# Altium integrated library Maxim Sensors.IntLib: 1171 symbols (part 56 of 61)
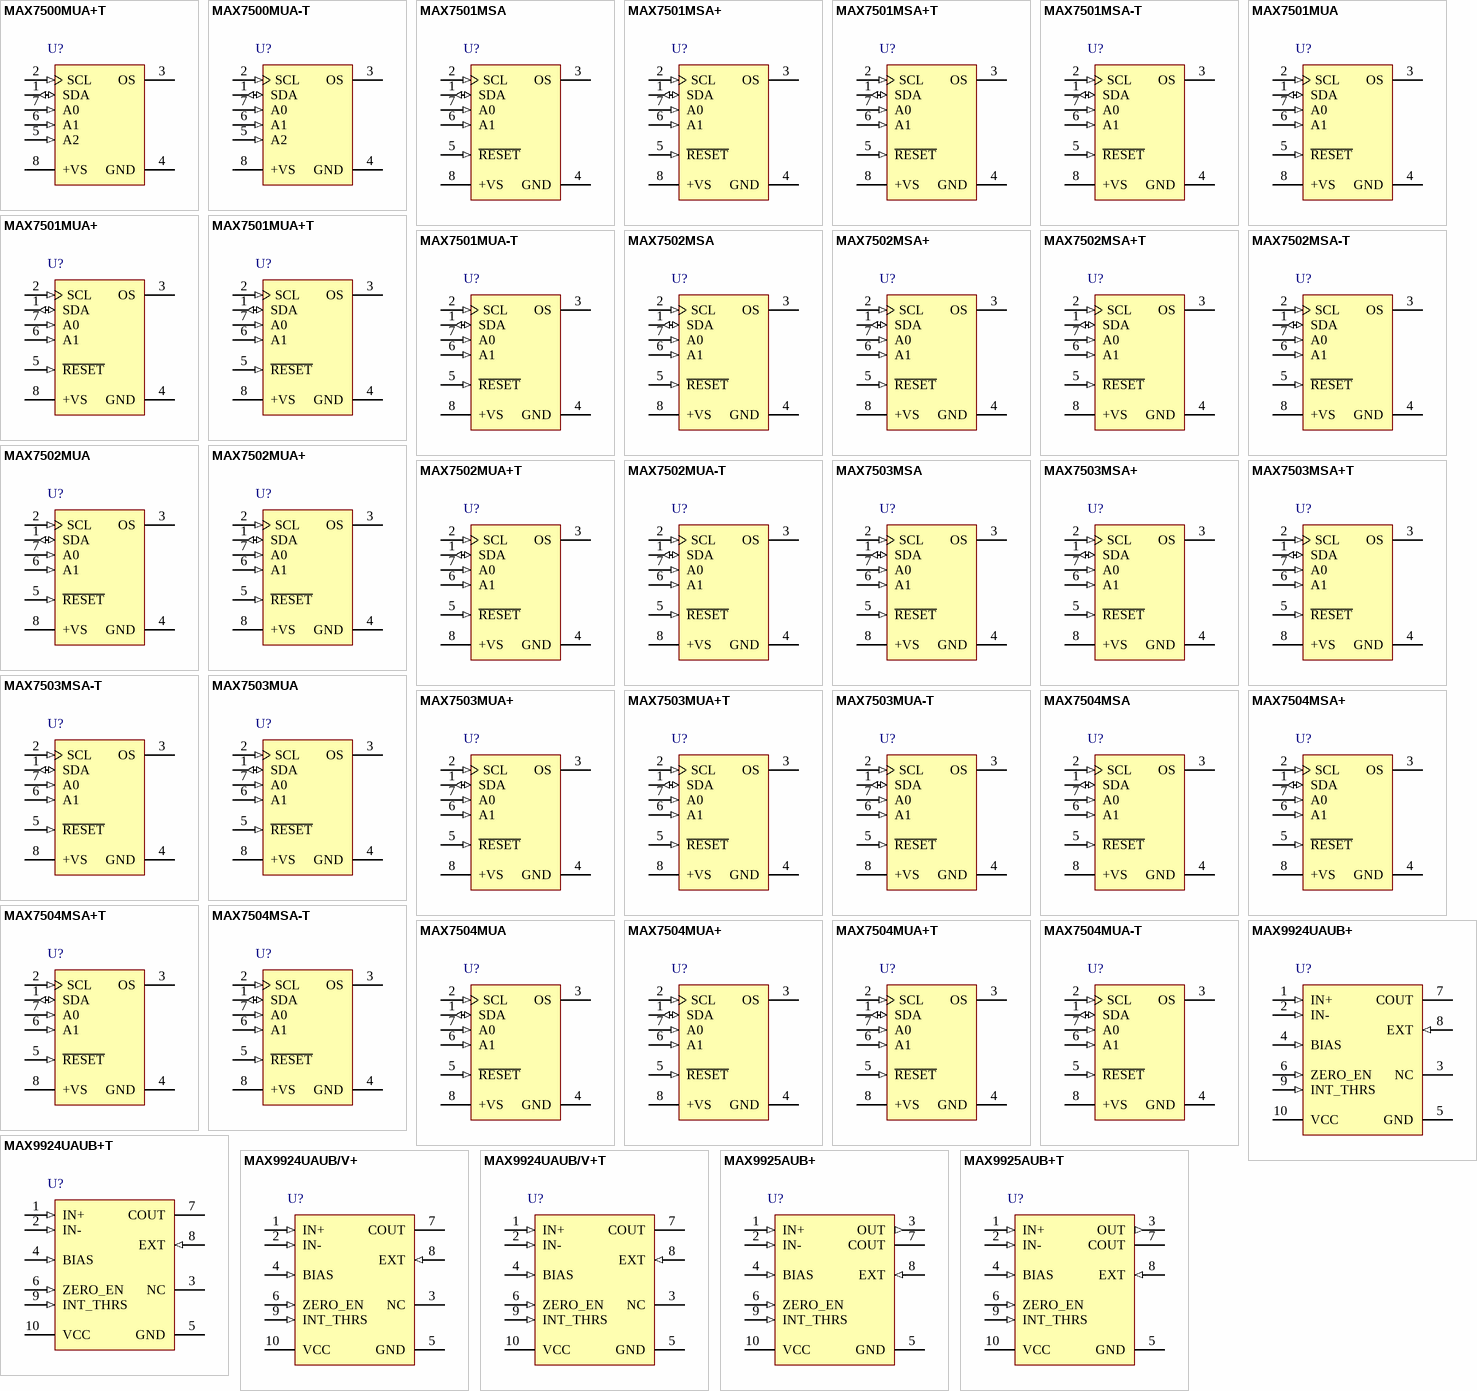
[diagram p88: symbols MAX7500MUA+T to MAX9925AUB+T]

## MAX9924UAUB+
designator U?
Single-Channel, Variable Reluctance Sensor Interface with No Low Power Shutdown, 4.5 to 5.5 V, -40 to 125 degC, 10-Pin SOP (U10+2), Pb-Free; Generic Part Number: MAX9924; PartNumber: MAX9924UAUB+; Channels: 1; Industry Qualified: Automotive - AECQ100, Automotive - General; DatasheetVersion: Rev. 4; PackageVersion: Rev. L, 07/2008; PackageReference: U10+2; PackageDescription: 10-Pin Micro-MAX, Thin Shrink Small-Outline (U10+2), Body 3 x 3 mm, Pitch 0.5 mm; Supplier 1: Digi-Key; Supplier Part Number 1: MAX9924UAUB+-ND; Supplier 2: Mouser; Supplier Part Number 2: 700-MAX9924UAUB; Low Pwr. Shutdn: No; Mounting Technology: Surface Mount; Code_JEDEC: MO-187; ComponentLink1Description: Manufacturer URL; ComponentLink1URL: http://www.maximintegrated.com/; ComponentLink2Description: Datasheet; ComponentLink2URL: http://datasheets.maximintegrated.com/en/ds/MAX9924-MAX9927.pdf; ComponentLink3Description: Package Specification; ComponentLink3URL: http://pdfserv.maximintegrated.com/package_dwgs/21-0061.PDF
footprint MAXM-U10+2_N (SOP, 10-Leads, Body 3x3mm, Pitch 0.5mm, IPC Medium Density)
footprint MAXM-U10+2_L (SOP, 10-Leads, Body 3x3mm, Pitch 0.5mm, IPC High Density)
footprint MAXM-U10+2_M (SOP, 10-Leads, Body 3x3mm, Pitch 0.5mm, IPC Low Density)
pins: 1 IN+ (in) "Noninverting Input", 2 IN- (in) "Inverting Input", 3 NC "No Connection. Not internally connected.", 4 BIAS (in) "Input Bias. Connect to an external resistor-divider and bypass to ground with a 0.1uF and 10uF capacitor.", 5 GND (power) "Ground", 6 ZERO_EN (in) "Zero-Crossing Enable. Mode configuration pin, internally pulled up to VCC with 10k ohm resistor.", 7 COUT (oc) "Comparator Output. Open-drain output, connect a 10k ohm pullup resistor from COUT to VPULLUP.", 8 EXT (in) "External Reference Input. Leave EXT unconnected in Modes A1, A2. Apply an external voltage in Modes B, C.", 9 INT_THRS (in) "Internal Adaptive Threshold. Mode configuration pin.", 10 VCC (power) "Power Supply"

## MAX9924UAUB+T
designator U?
Single-Channel, Variable Reluctance Sensor Interface with No Low Power Shutdown, 4.5 to 5.5 V, -40 to 125 degC, 10-Pin SOP (U10+2), Pb-Free, Tape and Reel; Generic Part Number: MAX9924; PartNumber: MAX9924UAUB+T; Channels: 1; Industry Qualified: Automotive - AECQ100, Automotive - General; DatasheetVersion: Rev. 4; PackageVersion: Rev. L, 07/2008; PackageReference: U10+2; PackageDescription: 10-Pin Micro-MAX, Thin Shrink Small-Outline (U10+2), Body 3 x 3 mm, Pitch 0.5 mm; Supplier 1: Digi-Key; Supplier Part Number 1: MAX9924UAUB+T-ND; Supplier 2: Mouser; Supplier Part Number 2: 700-MAX9924UAUBT; Low Pwr. Shutdn: No; Packing: Tape and Reel; Mounting Technology: Surface Mount; Code_JEDEC: MO-187; ComponentLink1Description: Manufacturer URL; ComponentLink1URL: http://www.maximintegrated.com/; ComponentLink2Description: Datasheet; ComponentLink2URL: http://datasheets.maximintegrated.com/en/ds/MAX9924-MAX9927.pdf; ComponentLink3Description: Package Specification; ComponentLink3URL: http://pdfserv.maximintegrated.com/package_dwgs/21-0061.PDF
footprint MAXM-U10+2_N (SOP, 10-Leads, Body 3x3mm, Pitch 0.5mm, IPC Medium Density)
footprint MAXM-U10+2_L (SOP, 10-Leads, Body 3x3mm, Pitch 0.5mm, IPC High Density)
footprint MAXM-U10+2_M (SOP, 10-Leads, Body 3x3mm, Pitch 0.5mm, IPC Low Density)
pins: 1 IN+ (in) "Noninverting Input", 2 IN- (in) "Inverting Input", 3 NC "No Connection. Not internally connected.", 4 BIAS (in) "Input Bias. Connect to an external resistor-divider and bypass to ground with a 0.1uF and 10uF capacitor.", 5 GND (power) "Ground", 6 ZERO_EN (in) "Zero-Crossing Enable. Mode configuration pin, internally pulled up to VCC with 10k ohm resistor.", 7 COUT (oc) "Comparator Output. Open-drain output, connect a 10k ohm pullup resistor from COUT to VPULLUP.", 8 EXT (in) "External Reference Input. Leave EXT unconnected in Modes A1, A2. Apply an external voltage in Modes B, C.", 9 INT_THRS (in) "Internal Adaptive Threshold. Mode configuration pin.", 10 VCC (power) "Power Supply"

## MAX9924UAUB/V+
designator U?
Single-Channel, Variable Reluctance Sensor Interface with No Low Power Shutdown, 4.5 to 5.5 V, -40 to 125 degC, 10-Pin SOP (U10+2), Pb-Free; Generic Part Number: MAX9924; PartNumber: MAX9924UAUB/V+; Channels: 1; Industry Qualified: Automotive - AECQ100, Automotive - General; DatasheetVersion: Rev. 4; PackageVersion: Rev. L, 07/2008; PackageReference: U10+2; PackageDescription: 10-Pin Micro-MAX, Thin Shrink Small-Outline (U10+2), Body 3 x 3 mm, Pitch 0.5 mm; Supplier 1: Digi-Key; Supplier Part Number 1: MAX9924UAUB/V+-ND; Supplier 2: Mouser; Supplier Part Number 2: 700-MAX9924UAUB/V+; Low Pwr. Shutdn: No; Mounting Technology: Surface Mount; Code_JEDEC: MO-187; ComponentLink1Description: Manufacturer URL; ComponentLink1URL: http://www.maximintegrated.com/; ComponentLink2Description: Datasheet; ComponentLink2URL: http://datasheets.maximintegrated.com/en/ds/MAX9924-MAX9927.pdf; ComponentLink3Description: Package Specification; ComponentLink3URL: http://pdfserv.maximintegrated.com/package_dwgs/21-0061.PDF
footprint MAXM-U10+2_N (SOP, 10-Leads, Body 3x3mm, Pitch 0.5mm, IPC Medium Density)
footprint MAXM-U10+2_L (SOP, 10-Leads, Body 3x3mm, Pitch 0.5mm, IPC High Density)
footprint MAXM-U10+2_M (SOP, 10-Leads, Body 3x3mm, Pitch 0.5mm, IPC Low Density)
pins: 1 IN+ (in) "Noninverting Input", 2 IN- (in) "Inverting Input", 3 NC "No Connection. Not internally connected.", 4 BIAS (in) "Input Bias. Connect to an external resistor-divider and bypass to ground with a 0.1uF and 10uF capacitor.", 5 GND (power) "Ground", 6 ZERO_EN (in) "Zero-Crossing Enable. Mode configuration pin, internally pulled up to VCC with 10k ohm resistor.", 7 COUT (oc) "Comparator Output. Open-drain output, connect a 10k ohm pullup resistor from COUT to VPULLUP.", 8 EXT (in) "External Reference Input. Leave EXT unconnected in Modes A1, A2. Apply an external voltage in Modes B, C.", 9 INT_THRS (in) "Internal Adaptive Threshold. Mode configuration pin.", 10 VCC (power) "Power Supply"

## MAX9924UAUB/V+T
designator U?
Single-Channel, Variable Reluctance Sensor Interface with No Low Power Shutdown, 4.5 to 5.5 V, -40 to 125 degC, 10-Pin SOP (U10+2), Pb-Free, Tape and Reel; Generic Part Number: MAX9924; PartNumber: MAX9924UAUB/V+T; Channels: 1; Industry Qualified: Automotive - AECQ100, Automotive - General; DatasheetVersion: Rev. 4; PackageVersion: Rev. L, 07/2008; PackageReference: U10+2; PackageDescription: 10-Pin Micro-MAX, Thin Shrink Small-Outline (U10+2), Body 3 x 3 mm, Pitch 0.5 mm; Supplier 1: Digi-Key; Supplier Part Number 1: MAX9924UAUB/V+T-ND; Supplier 2: Mouser; Supplier Part Number 2: 700-MAX9924UAUB/V+T; Low Pwr. Shutdn: No; Packing: Tape and Reel; Mounting Technology: Surface Mount; Code_JEDEC: MO-187; ComponentLink1Description: Manufacturer URL; ComponentLink1URL: http://www.maximintegrated.com/; ComponentLink2Description: Datasheet; ComponentLink2URL: http://datasheets.maximintegrated.com/en/ds/MAX9924-MAX9927.pdf; ComponentLink3Description: Package Specification; ComponentLink3URL: http://pdfserv.maximintegrated.com/package_dwgs/21-0061.PDF
footprint MAXM-U10+2_N (SOP, 10-Leads, Body 3x3mm, Pitch 0.5mm, IPC Medium Density)
footprint MAXM-U10+2_L (SOP, 10-Leads, Body 3x3mm, Pitch 0.5mm, IPC High Density)
footprint MAXM-U10+2_M (SOP, 10-Leads, Body 3x3mm, Pitch 0.5mm, IPC Low Density)
pins: 1 IN+ (in) "Noninverting Input", 2 IN- (in) "Inverting Input", 3 NC "No Connection. Not internally connected.", 4 BIAS (in) "Input Bias. Connect to an external resistor-divider and bypass to ground with a 0.1uF and 10uF capacitor.", 5 GND (power) "Ground", 6 ZERO_EN (in) "Zero-Crossing Enable. Mode configuration pin, internally pulled up to VCC with 10k ohm resistor.", 7 COUT (oc) "Comparator Output. Open-drain output, connect a 10k ohm pullup resistor from COUT to VPULLUP.", 8 EXT (in) "External Reference Input. Leave EXT unconnected in Modes A1, A2. Apply an external voltage in Modes B, C.", 9 INT_THRS (in) "Internal Adaptive Threshold. Mode configuration pin.", 10 VCC (power) "Power Supply"

## MAX9925AUB+
designator U?
Single-Channel, Variable Reluctance Sensor Interface with Adjustable Gain with and No Low Power Shutdown, 4.5 to 5.5 V, -40 to 125 degC, 10-Pin SOP (U10+2), Pb-Free; Generic Part Number: MAX9925; PartNumber: MAX9925AUB+; Channels: 1; DatasheetVersion: Rev. 4; PackageVersion: Rev. L, 07/2008; PackageReference: U10+2; PackageDescription: 10-Pin Micro-MAX, Thin Shrink Small-Outline (U10+2), Body 3 x 3 mm, Pitch 0.5 mm; Supplier 1: Digi-Key; Supplier Part Number 1: MAX9925AUB+-ND; Supplier 2: Mouser; Supplier Part Number 2: 700-MAX9925AUB; Low Pwr. Shutdn: No; Mounting Technology: Surface Mount; Code_JEDEC: MO-187; ComponentLink1Description: Manufacturer URL; ComponentLink1URL: http://www.maximintegrated.com/; ComponentLink2Description: Datasheet; ComponentLink2URL: http://datasheets.maximintegrated.com/en/ds/MAX9924-MAX9927.pdf; ComponentLink3Description: Package Specification; ComponentLink3URL: http://pdfserv.maximintegrated.com/package_dwgs/21-0061.PDF
footprint MAXM-U10+2_N (SOP, 10-Leads, Body 3x3mm, Pitch 0.5mm, IPC Medium Density)
footprint MAXM-U10+2_L (SOP, 10-Leads, Body 3x3mm, Pitch 0.5mm, IPC High Density)
footprint MAXM-U10+2_M (SOP, 10-Leads, Body 3x3mm, Pitch 0.5mm, IPC Low Density)
pins: 1 IN+ (in) "Noninverting Input", 2 IN- (in) "Inverting Input", 3 OUT (out) "Amplifier Output", 4 BIAS (in) "Input Bias. Connect to an external resistor-divider and bypass to ground with a 0.1μF and 10μF capacitor.", 5 GND (power) "Ground", 6 ZERO_EN (in) "Zero-Crossing Enable. Mode configuration pin, internally pulled up to VCC with 10k ohm resistor.", 7 COUT (oc) "Comparator Output. Open-drain output, connect a 10k ohm pullup resistor from COUT to VPULLUP.", 8 EXT (in) "External Reference Input. Leave EXT unconnected in Modes A1, A2. Apply an external voltage in Modes B, C.", 9 INT_THRS (in) "Internal Adaptive Threshold. Mode configuration pin.", 10 VCC (power) "Power Supply"

## MAX9925AUB+T
designator U?
Single-Channel, Variable Reluctance Sensor Interface with Adjustable Gain with and No Low Power Shutdown, 4.5 to 5.5 V, -40 to 125 degC, 10-Pin SOP (U10+2), Pb-Free, Tape and Reel; Generic Part Number: MAX9925; PartNumber: MAX9925AUB+T; Channels: 1; DatasheetVersion: Rev. 4; PackageVersion: Rev. L, 07/2008; PackageReference: U10+2; PackageDescription: 10-Pin Micro-MAX, Thin Shrink Small-Outline (U10+2), Body 3 x 3 mm, Pitch 0.5 mm; Supplier 1: Digi-Key; Supplier Part Number 1: MAX9925AUB+T-ND; Supplier 2: Mouser; Supplier Part Number 2: 700-MAX9925AUBT; Low Pwr. Shutdn: No; Packing: Tape and Reel; Mounting Technology: Surface Mount; Code_JEDEC: MO-187; ComponentLink1Description: Manufacturer URL; ComponentLink1URL: http://www.maximintegrated.com/; ComponentLink2Description: Datasheet; ComponentLink2URL: http://datasheets.maximintegrated.com/en/ds/MAX9924-MAX9927.pdf; ComponentLink3Description: Package Specification; ComponentLink3URL: http://pdfserv.maximintegrated.com/package_dwgs/21-0061.PDF
footprint MAXM-U10+2_N (SOP, 10-Leads, Body 3x3mm, Pitch 0.5mm, IPC Medium Density)
footprint MAXM-U10+2_L (SOP, 10-Leads, Body 3x3mm, Pitch 0.5mm, IPC High Density)
footprint MAXM-U10+2_M (SOP, 10-Leads, Body 3x3mm, Pitch 0.5mm, IPC Low Density)
pins: 1 IN+ (in) "Noninverting Input", 2 IN- (in) "Inverting Input", 3 OUT (out) "Amplifier Output", 4 BIAS (in) "Input Bias. Connect to an external resistor-divider and bypass to ground with a 0.1μF and 10μF capacitor.", 5 GND (power) "Ground", 6 ZERO_EN (in) "Zero-Crossing Enable. Mode configuration pin, internally pulled up to VCC with 10k ohm resistor.", 7 COUT (oc) "Comparator Output. Open-drain output, connect a 10k ohm pullup resistor from COUT to VPULLUP.", 8 EXT (in) "External Reference Input. Leave EXT unconnected in Modes A1, A2. Apply an external voltage in Modes B, C.", 9 INT_THRS (in) "Internal Adaptive Threshold. Mode configuration pin.", 10 VCC (power) "Power Supply"

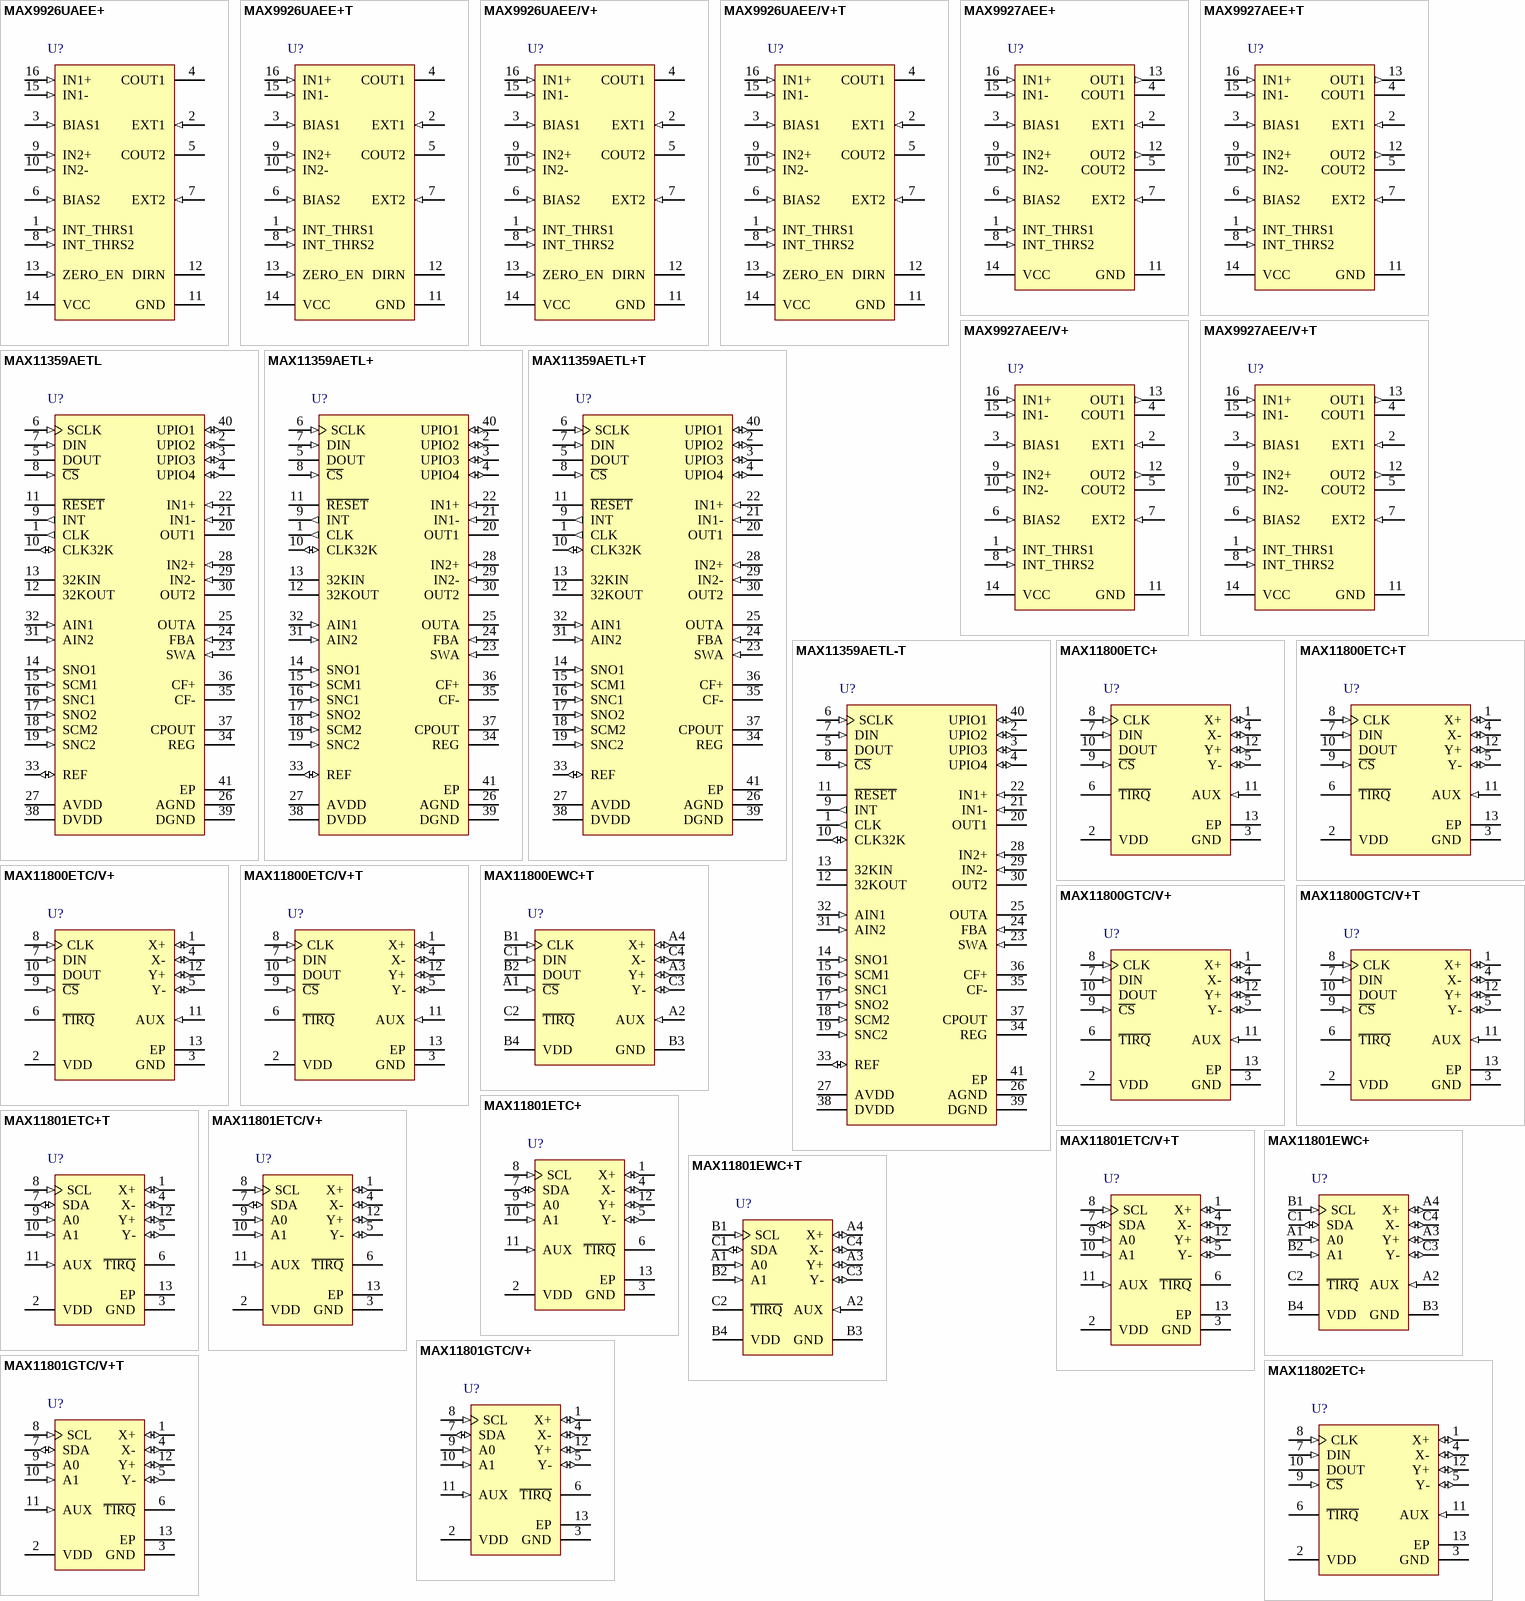
[diagram p30: symbols MAX9926UAEE+ to MAX11802ETC+]

## MAX9926UAEE+
designator U?
Dual-Channel, Variable Reluctance Sensor Interface with No Low Power Shutdown, 4.5 to 5.5 V, -40 to 125 degC, 16-Pin SOP (E16+1), Pb-Free; Generic Part Number: MAX9926; PartNumber: MAX9926UAEE+; Channels: 2; Industry Qualified: Automotive - General; DatasheetVersion: Rev. 4; PackageVersion: Rev. K, 04/2012; PackageReference: E16+1; PackageDescription: 16-Pin Quarter Small-Outline Package (E16+1), Body 4.90 x 3.89 mm, Pitch 0.635 mm; Supplier 1: Digi-Key; Supplier Part Number 1: MAX9926UAEE+-ND; Supplier 2: Mouser; Supplier Part Number 2: 700-MAX9926UAEE; Low Pwr. Shutdn: No; Mounting Technology: Surface Mount; Code_JEDEC: MO137; ComponentLink1Description: Manufacturer URL; ComponentLink1URL: http://www.maximintegrated.com/; ComponentLink2Description: Datasheet; ComponentLink2URL: http://datasheets.maximintegrated.com/en/ds/MAX9924-MAX9927.pdf; ComponentLink3Description: Package Specification; ComponentLink3URL: http://pdfserv.maximintegrated.com/package_dwgs/21-0055.PDF
footprint MAXM-E16+1_N (SOP, 16-Leads, Body 4.9x3.89mm, Pitch 0.635mm, IPC Medium Density)
footprint MAXM-E16+1_L (SOP, 16-Leads, Body 4.9x3.89mm, Pitch 0.635mm, IPC High Density)
footprint MAXM-E16+1_M (SOP, 16-Leads, Body 4.9x3.89mm, Pitch 0.635mm, IPC Low Density)
pins: 1 INT_THRS1 (in) "Internal Adaptive Threshold 1. Mode configuration pin.", 2 EXT1 (in) "External Reference Input 1. Leave EXT unconnected in Modes A1, A2. Apply an external voltage in Modes B, C.", 3 BIAS1 (in) "Input Bias 1. Connect to an external resistor-divider and bypass to ground with a 0.1uF and 10uF capacitor.", 4 COUT1 (oc) "Comparator Output 1. Open-drain output, connect a 10k ohm pullup resistor from COUT1 to VPULLUP.", 5 COUT2 (oc) "Comparator Output 2. Open-drain output, connect a 10k ohm pullup resistor from COUT2 to VPULLUP.", 6 BIAS2 (in) "Input Bias 2. Connect to an external resistor-divider and bypass to ground with a 0.1uF and 10uF capacitor.", 7 EXT2 (in) "External Reference Input 2. Leave EXT unconnected in Modes A1, A2. Apply an external voltage in Modes B, C.", 8 INT_THRS2 (in) "Internal Adaptive Threshold 2. Mode configuration pin.", 9 IN2+ (in) "Noninverting Input 2", 10 IN2- (in) "Inverting Input 2", 11 GND (power) "Ground", 12 DIRN (oc) "Rotational Direction Output. Open-drain output, connect a pull up resistor from DIRN to VPULLUP.", 13 ZERO_EN (in) "Zero-Crossing Enable. Mode configuration pin, internally pulled up to VCC with 10k ohm resistor", 14 VCC (power) "Power Supply", 15 IN1- (in) "Noninverting Input 1", 16 IN1+ (in) "Inverting Input 1"

## MAX9926UAEE+T
designator U?
Dual-Channel, Variable Reluctance Sensor Interface with No Low Power Shutdown, 4.5 to 5.5 V, -40 to 125 degC, 16-Pin SOP (E16+1), Pb-Free, Tape and Reel; Generic Part Number: MAX9926; PartNumber: MAX9926UAEE+T; Channels: 2; Industry Qualified: Automotive - General; DatasheetVersion: Rev. 4; PackageVersion: Rev. K, 04/2012; PackageReference: E16+1; PackageDescription: 16-Pin Quarter Small-Outline Package (E16+1), Body 4.90 x 3.89 mm, Pitch 0.635 mm; Supplier 1: Digi-Key; Supplier Part Number 1: MAX9926UAEE+TTR-ND; Supplier 2: Digi-Key; Supplier Part Number 2: MAX9926UAEE+TCT-ND; Supplier 3: Digi-Key; Supplier Part Number 3: MAX9926UAEE+TDKR-ND; Supplier 4: Mouser; Supplier Part Number 4: 700-MAX9926UAEET; Low Pwr. Shutdn: No; Packing: Tape and Reel; Mounting Technology: Surface Mount; Code_JEDEC: MO137; ComponentLink1Description: Manufacturer URL; ComponentLink1URL: http://www.maximintegrated.com/; ComponentLink2Description: Datasheet; ComponentLink2URL: http://datasheets.maximintegrated.com/en/ds/MAX9924-MAX9927.pdf; ComponentLink3Description: Package Specification; ComponentLink3URL: http://pdfserv.maximintegrated.com/package_dwgs/21-0055.PDF
footprint MAXM-E16+1_N (SOP, 16-Leads, Body 4.9x3.89mm, Pitch 0.635mm, IPC Medium Density)
footprint MAXM-E16+1_L (SOP, 16-Leads, Body 4.9x3.89mm, Pitch 0.635mm, IPC High Density)
footprint MAXM-E16+1_M (SOP, 16-Leads, Body 4.9x3.89mm, Pitch 0.635mm, IPC Low Density)
pins: 1 INT_THRS1 (in) "Internal Adaptive Threshold 1. Mode configuration pin.", 2 EXT1 (in) "External Reference Input 1. Leave EXT unconnected in Modes A1, A2. Apply an external voltage in Modes B, C.", 3 BIAS1 (in) "Input Bias 1. Connect to an external resistor-divider and bypass to ground with a 0.1uF and 10uF capacitor.", 4 COUT1 (oc) "Comparator Output 1. Open-drain output, connect a 10k ohm pullup resistor from COUT1 to VPULLUP.", 5 COUT2 (oc) "Comparator Output 2. Open-drain output, connect a 10k ohm pullup resistor from COUT2 to VPULLUP.", 6 BIAS2 (in) "Input Bias 2. Connect to an external resistor-divider and bypass to ground with a 0.1uF and 10uF capacitor.", 7 EXT2 (in) "External Reference Input 2. Leave EXT unconnected in Modes A1, A2. Apply an external voltage in Modes B, C.", 8 INT_THRS2 (in) "Internal Adaptive Threshold 2. Mode configuration pin.", 9 IN2+ (in) "Noninverting Input 2", 10 IN2- (in) "Inverting Input 2", 11 GND (power) "Ground", 12 DIRN (oc) "Rotational Direction Output. Open-drain output, connect a pull up resistor from DIRN to VPULLUP.", 13 ZERO_EN (in) "Zero-Crossing Enable. Mode configuration pin, internally pulled up to VCC with 10k ohm resistor", 14 VCC (power) "Power Supply", 15 IN1- (in) "Noninverting Input 1", 16 IN1+ (in) "Inverting Input 1"

## MAX9926UAEE/V+
designator U?
Dual-Channel, Variable Reluctance Sensor Interface with No Low Power Shutdown, 4.5 to 5.5 V, -40 to 125 degC, 16-Pin SOP (E16+1), Pb-Free; Generic Part Number: MAX9926; PartNumber: MAX9926UAEE/V+; Channels: 2; Industry Qualified: Automotive - General; DatasheetVersion: Rev. 4; PackageVersion: Rev. K, 04/2012; PackageReference: E16+1; PackageDescription: 16-Pin Quarter Small-Outline Package (E16+1), Body 4.90 x 3.89 mm, Pitch 0.635 mm; Supplier 1: Digi-Key; Supplier Part Number 1: MAX9926UAEE/V+-ND; Supplier 2: Mouser; Supplier Part Number 2: 700-MAX9926UAEE/V+; Low Pwr. Shutdn: No; Mounting Technology: Surface Mount; Code_JEDEC: MO137; ComponentLink1Description: Manufacturer URL; ComponentLink1URL: http://www.maximintegrated.com/; ComponentLink2Description: Datasheet; ComponentLink2URL: http://datasheets.maximintegrated.com/en/ds/MAX9924-MAX9927.pdf; ComponentLink3Description: Package Specification; ComponentLink3URL: http://pdfserv.maximintegrated.com/package_dwgs/21-0055.PDF
footprint MAXM-E16+1_N (SOP, 16-Leads, Body 4.9x3.89mm, Pitch 0.635mm, IPC Medium Density)
footprint MAXM-E16+1_L (SOP, 16-Leads, Body 4.9x3.89mm, Pitch 0.635mm, IPC High Density)
footprint MAXM-E16+1_M (SOP, 16-Leads, Body 4.9x3.89mm, Pitch 0.635mm, IPC Low Density)
pins: 1 INT_THRS1 (in) "Internal Adaptive Threshold 1. Mode configuration pin.", 2 EXT1 (in) "External Reference Input 1. Leave EXT unconnected in Modes A1, A2. Apply an external voltage in Modes B, C.", 3 BIAS1 (in) "Input Bias 1. Connect to an external resistor-divider and bypass to ground with a 0.1uF and 10uF capacitor.", 4 COUT1 (oc) "Comparator Output 1. Open-drain output, connect a 10k ohm pullup resistor from COUT1 to VPULLUP.", 5 COUT2 (oc) "Comparator Output 2. Open-drain output, connect a 10k ohm pullup resistor from COUT2 to VPULLUP.", 6 BIAS2 (in) "Input Bias 2. Connect to an external resistor-divider and bypass to ground with a 0.1uF and 10uF capacitor.", 7 EXT2 (in) "External Reference Input 2. Leave EXT unconnected in Modes A1, A2. Apply an external voltage in Modes B, C.", 8 INT_THRS2 (in) "Internal Adaptive Threshold 2. Mode configuration pin.", 9 IN2+ (in) "Noninverting Input 2", 10 IN2- (in) "Inverting Input 2", 11 GND (power) "Ground", 12 DIRN (oc) "Rotational Direction Output. Open-drain output, connect a pull up resistor from DIRN to VPULLUP.", 13 ZERO_EN (in) "Zero-Crossing Enable. Mode configuration pin, internally pulled up to VCC with 10k ohm resistor", 14 VCC (power) "Power Supply", 15 IN1- (in) "Noninverting Input 1", 16 IN1+ (in) "Inverting Input 1"

## MAX9926UAEE/V+T
designator U?
Dual-Channel, Variable Reluctance Sensor Interface with No Low Power Shutdown, 4.5 to 5.5 V, -40 to 125 degC, 16-Pin SOP (E16+1), Pb-Free, Tape and Reel; Generic Part Number: MAX9926; PartNumber: MAX9926UAEE/V+T; Channels: 2; Industry Qualified: Automotive - General; DatasheetVersion: Rev. 4; PackageVersion: Rev. K, 04/2012; PackageReference: E16+1; PackageDescription: 16-Pin Quarter Small-Outline Package (E16+1), Body 4.90 x 3.89 mm, Pitch 0.635 mm; Supplier 1: Digi-Key; Supplier Part Number 1: MAX9926UAEE/V+T-ND; Supplier 2: Mouser; Supplier Part Number 2: 700-MAX9926UAEE/V+T; Low Pwr. Shutdn: No; Packing: Tape and Reel; Mounting Technology: Surface Mount; Code_JEDEC: MO137; ComponentLink1Description: Manufacturer URL; ComponentLink1URL: http://www.maximintegrated.com/; ComponentLink2Description: Datasheet; ComponentLink2URL: http://datasheets.maximintegrated.com/en/ds/MAX9924-MAX9927.pdf; ComponentLink3Description: Package Specification; ComponentLink3URL: http://pdfserv.maximintegrated.com/package_dwgs/21-0055.PDF
footprint MAXM-E16+1_N (SOP, 16-Leads, Body 4.9x3.89mm, Pitch 0.635mm, IPC Medium Density)
footprint MAXM-E16+1_L (SOP, 16-Leads, Body 4.9x3.89mm, Pitch 0.635mm, IPC High Density)
footprint MAXM-E16+1_M (SOP, 16-Leads, Body 4.9x3.89mm, Pitch 0.635mm, IPC Low Density)
pins: 1 INT_THRS1 (in) "Internal Adaptive Threshold 1. Mode configuration pin.", 2 EXT1 (in) "External Reference Input 1. Leave EXT unconnected in Modes A1, A2. Apply an external voltage in Modes B, C.", 3 BIAS1 (in) "Input Bias 1. Connect to an external resistor-divider and bypass to ground with a 0.1uF and 10uF capacitor.", 4 COUT1 (oc) "Comparator Output 1. Open-drain output, connect a 10k ohm pullup resistor from COUT1 to VPULLUP.", 5 COUT2 (oc) "Comparator Output 2. Open-drain output, connect a 10k ohm pullup resistor from COUT2 to VPULLUP.", 6 BIAS2 (in) "Input Bias 2. Connect to an external resistor-divider and bypass to ground with a 0.1uF and 10uF capacitor.", 7 EXT2 (in) "External Reference Input 2. Leave EXT unconnected in Modes A1, A2. Apply an external voltage in Modes B, C.", 8 INT_THRS2 (in) "Internal Adaptive Threshold 2. Mode configuration pin.", 9 IN2+ (in) "Noninverting Input 2", 10 IN2- (in) "Inverting Input 2", 11 GND (power) "Ground", 12 DIRN (oc) "Rotational Direction Output. Open-drain output, connect a pull up resistor from DIRN to VPULLUP.", 13 ZERO_EN (in) "Zero-Crossing Enable. Mode configuration pin, internally pulled up to VCC with 10k ohm resistor", 14 VCC (power) "Power Supply", 15 IN1- (in) "Noninverting Input 1", 16 IN1+ (in) "Inverting Input 1"

## MAX9927AEE+
designator U?
Dual-Channel, Variable Reluctance Sensor Interface with Adjustable Gain and No Low Power Shutdown, 4.5 to 5.5 V, -40 to 125 degC, 16-Pin SOP (E16+1), Pb-Free; Generic Part Number: MAX9927; PartNumber: MAX9927AEE+; Channels: 2; Industry Qualified: Automotive - AECQ100, Automotive - General; DatasheetVersion: Rev. 4; PackageVersion: Rev. K, 04/2012; PackageReference: E16+1; PackageDescription: 16-Pin Quarter Small-Outline Package (E16+1), Body 4.90 x 3.89 mm, Pitch 0.635 mm; Supplier 1: Digi-Key; Supplier Part Number 1: MAX9927AEE+-ND; Supplier 2: Mouser; Supplier Part Number 2: 700-MAX9927AEE; Low Pwr. Shutdn: No; Mounting Technology: Surface Mount; Code_JEDEC: MO137; ComponentLink1Description: Manufacturer URL; ComponentLink1URL: http://www.maximintegrated.com/; ComponentLink2Description: Datasheet; ComponentLink2URL: http://datasheets.maximintegrated.com/en/ds/MAX9924-MAX9927.pdf; ComponentLink3Description: Package Specification; ComponentLink3URL: http://pdfserv.maximintegrated.com/package_dwgs/21-0055.PDF
footprint MAXM-E16+1_N (SOP, 16-Leads, Body 4.9x3.89mm, Pitch 0.635mm, IPC Medium Density)
footprint MAXM-E16+1_L (SOP, 16-Leads, Body 4.9x3.89mm, Pitch 0.635mm, IPC High Density)
footprint MAXM-E16+1_M (SOP, 16-Leads, Body 4.9x3.89mm, Pitch 0.635mm, IPC Low Density)
pins: 1 INT_THRS1 (in) "Internal Adaptive Threshold 1. Mode configuration pin.", 2 EXT1 (in) "External Reference Input 1. Leave EXT unconnected in Modes A1, A2. Apply an external voltage in Modes B, C.", 3 BIAS1 (in) "Input Bias 1. Connect to an external resistor-divider and bypass to ground with a 0.1uF and 10uF capacitor.", 4 COUT1 (oc) "Comparator Output 1. Open-drain output, connect a 10k ohm pullup resistor from COUT1 to VPULLUP.", 5 COUT2 (oc) "Comparator Output 2. Open-drain output, connect a 10k ohm pullup resistor from COUT2 to VPULLUP.", 6 BIAS2 (in) "Input Bias 2. Connect to an external resistor-divider and bypass to ground with a 0.1uF and 10uF capacitor.", 7 EXT2 (in) "External Reference Input 2. Leave EXT unconnected in Modes A1, A2. Apply an external voltage in Modes B, C.", 8 INT_THRS2 (in) "Internal Adaptive Threshold 2. Mode configuration pin.", 9 IN2+ (in) "Noninverting Input 2", 10 IN2- (in) "Inverting Input 2", 11 GND (power) "Ground", 12 OUT2 (out) "Amplifier Output 2", 13 OUT1 (out) "Amplifier Output 1", 14 VCC (power) "Power Supply", 15 IN1- (in) "Noninverting Input 1", 16 IN1+ (in) "Inverting Input 1"

## MAX9927AEE+T
designator U?
Dual-Channel, Variable Reluctance Sensor Interface with Adjustable Gain and No Low Power Shutdown, 4.5 to 5.5 V, -40 to 125 degC, 16-Pin SOP (E16+1), Pb-Free, Tape and Reel; Generic Part Number: MAX9927; PartNumber: MAX9927AEE+T; Channels: 2; Industry Qualified: Automotive - AECQ100, Automotive - General; DatasheetVersion: Rev. 4; PackageVersion: Rev. K, 04/2012; PackageReference: E16+1; PackageDescription: 16-Pin Quarter Small-Outline Package (E16+1), Body 4.90 x 3.89 mm, Pitch 0.635 mm; Supplier 1: Digi-Key; Supplier Part Number 1: MAX9927AEE+T-ND; Supplier 2: Mouser; Supplier Part Number 2: 700-MAX9927AEET; Low Pwr. Shutdn: No; Packing: Tape and Reel; Mounting Technology: Surface Mount; Code_JEDEC: MO137; ComponentLink1Description: Manufacturer URL; ComponentLink1URL: http://www.maximintegrated.com/; ComponentLink2Description: Datasheet; ComponentLink2URL: http://datasheets.maximintegrated.com/en/ds/MAX9924-MAX9927.pdf; ComponentLink3Description: Package Specification; ComponentLink3URL: http://pdfserv.maximintegrated.com/package_dwgs/21-0055.PDF
footprint MAXM-E16+1_N (SOP, 16-Leads, Body 4.9x3.89mm, Pitch 0.635mm, IPC Medium Density)
footprint MAXM-E16+1_L (SOP, 16-Leads, Body 4.9x3.89mm, Pitch 0.635mm, IPC High Density)
footprint MAXM-E16+1_M (SOP, 16-Leads, Body 4.9x3.89mm, Pitch 0.635mm, IPC Low Density)
pins: 1 INT_THRS1 (in) "Internal Adaptive Threshold 1. Mode configuration pin.", 2 EXT1 (in) "External Reference Input 1. Leave EXT unconnected in Modes A1, A2. Apply an external voltage in Modes B, C.", 3 BIAS1 (in) "Input Bias 1. Connect to an external resistor-divider and bypass to ground with a 0.1uF and 10uF capacitor.", 4 COUT1 (oc) "Comparator Output 1. Open-drain output, connect a 10k ohm pullup resistor from COUT1 to VPULLUP.", 5 COUT2 (oc) "Comparator Output 2. Open-drain output, connect a 10k ohm pullup resistor from COUT2 to VPULLUP.", 6 BIAS2 (in) "Input Bias 2. Connect to an external resistor-divider and bypass to ground with a 0.1uF and 10uF capacitor.", 7 EXT2 (in) "External Reference Input 2. Leave EXT unconnected in Modes A1, A2. Apply an external voltage in Modes B, C.", 8 INT_THRS2 (in) "Internal Adaptive Threshold 2. Mode configuration pin.", 9 IN2+ (in) "Noninverting Input 2", 10 IN2- (in) "Inverting Input 2", 11 GND (power) "Ground", 12 OUT2 (out) "Amplifier Output 2", 13 OUT1 (out) "Amplifier Output 1", 14 VCC (power) "Power Supply", 15 IN1- (in) "Noninverting Input 1", 16 IN1+ (in) "Inverting Input 1"

## MAX9927AEE/V+
designator U?
Dual-Channel, Variable Reluctance Sensor Interface with Adjustable Gain and No Low Power Shutdown, 4.5 to 5.5 V, -40 to 125 degC, 16-Pin SOP (E16+1), Pb-Free; Generic Part Number: MAX9927; PartNumber: MAX9927AEE/V+; Channels: 2; Industry Qualified: Automotive - AECQ100, Automotive - General; DatasheetVersion: Rev. 4; PackageVersion: Rev. K, 04/2012; PackageReference: E16+1; PackageDescription: 16-Pin Quarter Small-Outline Package (E16+1), Body 4.90 x 3.89 mm, Pitch 0.635 mm; Supplier 1: Digi-Key; Supplier Part Number 1: MAX9927AEE/V+-ND; Supplier 2: Mouser; Supplier Part Number 2: 700-MAX9927AEE/V+; Low Pwr. Shutdn: No; Mounting Technology: Surface Mount; Code_JEDEC: MO137; ComponentLink1Description: Manufacturer URL; ComponentLink1URL: http://www.maximintegrated.com/; ComponentLink2Description: Datasheet; ComponentLink2URL: http://datasheets.maximintegrated.com/en/ds/MAX9924-MAX9927.pdf; ComponentLink3Description: Package Specification; ComponentLink3URL: http://pdfserv.maximintegrated.com/package_dwgs/21-0055.PDF
footprint MAXM-E16+1_N (SOP, 16-Leads, Body 4.9x3.89mm, Pitch 0.635mm, IPC Medium Density)
footprint MAXM-E16+1_L (SOP, 16-Leads, Body 4.9x3.89mm, Pitch 0.635mm, IPC High Density)
footprint MAXM-E16+1_M (SOP, 16-Leads, Body 4.9x3.89mm, Pitch 0.635mm, IPC Low Density)
pins: 1 INT_THRS1 (in) "Internal Adaptive Threshold 1. Mode configuration pin.", 2 EXT1 (in) "External Reference Input 1. Leave EXT unconnected in Modes A1, A2. Apply an external voltage in Modes B, C.", 3 BIAS1 (in) "Input Bias 1. Connect to an external resistor-divider and bypass to ground with a 0.1uF and 10uF capacitor.", 4 COUT1 (oc) "Comparator Output 1. Open-drain output, connect a 10k ohm pullup resistor from COUT1 to VPULLUP.", 5 COUT2 (oc) "Comparator Output 2. Open-drain output, connect a 10k ohm pullup resistor from COUT2 to VPULLUP.", 6 BIAS2 (in) "Input Bias 2. Connect to an external resistor-divider and bypass to ground with a 0.1uF and 10uF capacitor.", 7 EXT2 (in) "External Reference Input 2. Leave EXT unconnected in Modes A1, A2. Apply an external voltage in Modes B, C.", 8 INT_THRS2 (in) "Internal Adaptive Threshold 2. Mode configuration pin.", 9 IN2+ (in) "Noninverting Input 2", 10 IN2- (in) "Inverting Input 2", 11 GND (power) "Ground", 12 OUT2 (out) "Amplifier Output 2", 13 OUT1 (out) "Amplifier Output 1", 14 VCC (power) "Power Supply", 15 IN1- (in) "Noninverting Input 1", 16 IN1+ (in) "Inverting Input 1"

## MAX9927AEE/V+T
designator U?
Dual-Channel, Variable Reluctance Sensor Interface with Adjustable Gain and No Low Power Shutdown, 4.5 to 5.5 V, -40 to 125 degC, 16-Pin SOP (E16+1), Pb-Free, Tape and Reel; Generic Part Number: MAX9927; PartNumber: MAX9927AEE/V+T; Channels: 2; Industry Qualified: Automotive - AECQ100, Automotive - General; DatasheetVersion: Rev. 4; PackageVersion: Rev. K, 04/2012; PackageReference: E16+1; PackageDescription: 16-Pin Quarter Small-Outline Package (E16+1), Body 4.90 x 3.89 mm, Pitch 0.635 mm; Supplier 1: Digi-Key; Supplier Part Number 1: MAX9927AEE/V+T-ND; Supplier 2: Mouser; Supplier Part Number 2: 700-MAX9927AEE/V+T; Low Pwr. Shutdn: No; Packing: Tape and Reel; Mounting Technology: Surface Mount; Code_JEDEC: MO137; ComponentLink1Description: Manufacturer URL; ComponentLink1URL: http://www.maximintegrated.com/; ComponentLink2Description: Datasheet; ComponentLink2URL: http://datasheets.maximintegrated.com/en/ds/MAX9924-MAX9927.pdf; ComponentLink3Description: Package Specification; ComponentLink3URL: http://pdfserv.maximintegrated.com/package_dwgs/21-0055.PDF
footprint MAXM-E16+1_N (SOP, 16-Leads, Body 4.9x3.89mm, Pitch 0.635mm, IPC Medium Density)
footprint MAXM-E16+1_L (SOP, 16-Leads, Body 4.9x3.89mm, Pitch 0.635mm, IPC High Density)
footprint MAXM-E16+1_M (SOP, 16-Leads, Body 4.9x3.89mm, Pitch 0.635mm, IPC Low Density)
pins: 1 INT_THRS1 (in) "Internal Adaptive Threshold 1. Mode configuration pin.", 2 EXT1 (in) "External Reference Input 1. Leave EXT unconnected in Modes A1, A2. Apply an external voltage in Modes B, C.", 3 BIAS1 (in) "Input Bias 1. Connect to an external resistor-divider and bypass to ground with a 0.1uF and 10uF capacitor.", 4 COUT1 (oc) "Comparator Output 1. Open-drain output, connect a 10k ohm pullup resistor from COUT1 to VPULLUP.", 5 COUT2 (oc) "Comparator Output 2. Open-drain output, connect a 10k ohm pullup resistor from COUT2 to VPULLUP.", 6 BIAS2 (in) "Input Bias 2. Connect to an external resistor-divider and bypass to ground with a 0.1uF and 10uF capacitor.", 7 EXT2 (in) "External Reference Input 2. Leave EXT unconnected in Modes A1, A2. Apply an external voltage in Modes B, C.", 8 INT_THRS2 (in) "Internal Adaptive Threshold 2. Mode configuration pin.", 9 IN2+ (in) "Noninverting Input 2", 10 IN2- (in) "Inverting Input 2", 11 GND (power) "Ground", 12 OUT2 (out) "Amplifier Output 2", 13 OUT1 (out) "Amplifier Output 1", 14 VCC (power) "Power Supply", 15 IN1- (in) "Noninverting Input 1", 16 IN1+ (in) "Inverting Input 1"

## MAX11359AETL
designator U?
16-Bit Data-Acquisition System with ADC, DACs, UPIOs, RTC, Voltage Monitors, and Temp Sensor, with 10-bit DAC, 16-bit ADC, -40 to 85 degC, 40-Pin QFN (T4066-5); Generic Part Number: MAX11359A; PartNumber: MAX11359AETL; Calibration Method: External microcontroller; Interface: SPI; Output Type: Digital; DatasheetVersion: Rev. 1; PackageVersion: Rev. M, 03/2012; PackageReference: T4066-5; PackageDescription: 40-Pin Thin Quad Flatpack, No Leads, Body 6 x 6 mm, Pitch 0.5 mm; Supplier 1: Mouser; Supplier Part Number 1: N/A; DACs/ADCs: 10-bit DAC, 16-bit ADC; Features: 2 Op Amps, Analog Switches ,Charge Pump ,RTC ,Temp. Sensor ,UPIOs ,Voltage Reference; Mounting Technology: Surface Mount; Code_JEDEC: MO-220; ComponentLink1Description: Manufacturer URL; ComponentLink1URL: http://www.maximintegrated.com/; ComponentLink2Description: Datasheet; ComponentLink2URL: http://datasheets.maximintegrated.com/en/ds/MAX11359A.pdf; ComponentLink3Description: Package Specification; ComponentLink3URL: http://pdfserv.maximintegrated.com/package_dwgs/21-0141.PDF
footprint MAXM-T4066-5_N (QFN, 40-Leads, Body 6x6mm, Pitch 0.5mm, Thermal Pad 4.1x4.1 mm, IPC Medium Density)
footprint MAXM-T4066-5_L (QFN, 40-Leads, Body 6x6mm, Pitch 0.5mm, Thermal Pad 4.1x4.1 mm, IPC High Density)
footprint MAXM-T4066-5_M (QFN, 40-Leads, Body 6x6mm, Pitch 0.5mm, Thermal Pad 4.1x4.1 mm, IPC Low Density)
pins: 1 CLK (out) "Clock Output. Default is 2.457MHz output clock for uC.", 2 UPIO2 (io) "User-Programmable Input/Output 2. See the UPIO2_CTRL Register section for functionality.", 3 UPIO3 (io) "User-Programmable Input/Output 3. See the UPIO3_CTRL Register section for functionality.", 4 UPIO4 (io) "User-Programmable Input/Output 4. See the UPIO4_CTRL Register section for functionality.", 5 DOUT (hiz) "Serial-Data Output. Data is clocked out on SCLK’s falling edge. High impedance when C\S\ is high. When UPIO/SPI passthrough mode is enabled, DOUT mirrors the state of UPIO1.", 6 SCLK (in) "Serial-Clock Input. Clocks data in and out of the serial interface.", 7 DIN (in) "Serial-Data Input. Data is clocked in on SCLK’s rising edge.", 8 ~{CS} (in) "Active-Low Chip-Select Input. Data is not clocked into DIN unless C\S\ is low. When C\S\ is high, DOUT is high impedance. High impedance when C\S\ is high. When UPIO/SPI passthrough mode is enabled, DOUT mirrors the state of (See Datasheet)", 9 INT (out) "Programmable Active-High/Low Interrupt Output. ADC, UPIO wake-up, alarm, and voltage-monitor events.", 10 CLK32K (io) "32kHz Clock Input/Output. Outputs 32kHz clock for uC. Can be programmed as an input by enabling the IO32E bit to accept an external 32kHz input clock. The RTC, PWM, and watchdog timer always use the internal 32kHz clock (See Datasheet)", 11 ~{RESET} (oc) "Active-Low Open-Drain R\e\s\e\t\ Output. Remains low while DVDD is below the 1.8V voltage threshold, and stays low for a timeout period (tDSLP) after DVDD rises above the 1.8V threshold. R\E\S\E\T\ also pulses low when the (See Datasheet)", 12 32KOUT "32kHz Crystal Output. Connect external 32kHz watch crystal between 32KIN and 32KOUT.", 13 32KIN "32kHz Crystal Input. Connect external 32kHz watch crystal between 32KIN and 32KOUT or drive with CMOS level as shown in Figure 25.", 14 SNO1 (in) "Analog Switch 1 Normally Open Terminal. Analog input to mux.", 15 SCM1 (in) "Analog Switch 1 Common Terminal. Analog input to mux.", 16 SNC1 (in) "Analog Switch 1 Normally Closed Terminal. Analog input to mux (open on POR).", 17 SNO2 (in) "Analog Switch 2 Normally Open Terminal. Analog input to mux.", 18 SCM2 (in) "Analog Switch 2 Common Terminal. Analog input to mux (open on POR).", 19 SNC2 (in) "Analog Switch 2 Normally Closed Terminal. Analog input to mux.", 20 OUT1 (hiz) "Amplifier 1 Output. Analog input to mux.", 21 IN1- (in) "Amplifier 1 Inverting Input. Analog input to mux.", 22 IN1+ (in) "Amplifier 1 Noninverting Input", 23 SWA (in) "DACA SPST Shunt Switch Input. Connects to OUTA through a SPST switch.", 24 FBA (in) "DACA Force-Sense Feedback Input. Analog input to mux.", 25 OUTA (hiz) "DACA Force-Sense Output. Analog input to mux.", 26 AGND (power) "Analog Ground", 27 AVDD (power) "Analog Supply Voltage. Also ADC reference voltage during AVDD measurement. Bypass to AGND with 10uF and 0.1uF capacitors in parallel as close to the pin as possible.", 28 IN2+ (in) "Amplifier 2 Noninverting Input", 29 IN2- (in) "Amplifier 2 Inverting Input. Analog input to mux.", 30 OUT2 (hiz) "Amplifier 2 Output. Analog input to mux.", 31 AIN2 (in) "Analog Input 2. Analog input to mux. Inputs have internal programmable current source for external temperature measurement.", 32 AIN1 (in) "Analog Input 1. Analog input to mux. Inputs have internal programmable current source for external temperature measurement.", 33 REF (io) "Reference Input/Output. Output of the reference buffer amplifier or external reference input. Disabled at power-up to allow external reference. Reference voltage for ADC and DAC.", 34 REG (power) "Linear Voltage-Regulator Output. Charge-pump-doubler input voltage. Bypass REG with a 10uF capacitor to DGND for charge-pump regulation.", 35 CF- "Charge-Pump Flying Capacitor Terminal. Connect an external 10uF (typ) capacitor between CF+ and CF- .", 36 CF+ "Charge-Pump Flying Capacitor Terminal. Connect an external 10uF (typ) capacitor between CF+ and CF- .", 37 CPOUT (power) "Charge-Pump Output. Connect an external 10uF (typ) reservoir capacitor between CPOUT and DGND . There is a low threshold diode between DVDD and CPOUT. When the charge pump is disabled , CPOUT is pulled up within 300mV (typ) (See Datasheet)", 38 DVDD (power) "Digital Supply Voltage. Bypass to DGND with 10uF and 0.1uF capacitors in parallel as close to the pin as possible.", 39 DGND (power) "Digital Ground. Also ground for cascaded linear voltage regulator and charge-pump doubler.", 40 UPIO1 (io) "User-Programmable Input/Output 1. See the UPIO1_CTRL Register for functionality.", 41 EP (power) "Exposed  Pad . Leave unconnected  or  connect to AGND ."

## MAX11359AETL+
designator U?
16-Bit Data-Acquisition System with ADC, DACs, UPIOs, RTC, Voltage Monitors, and Temp Sensor, with 10-bit DAC, 16-bit ADC, -40 to 85 degC, 40-Pin QFN (T4066+5), Pb-Free; Generic Part Number: MAX11359A; PartNumber: MAX11359AETL+; Calibration Method: External microcontroller; Interface: SPI; Output Type: Digital; DatasheetVersion: Rev. 1; PackageVersion: Rev. M, 03/2012; PackageReference: T4066+5; PackageDescription: 40-Pin Thin Quad Flatpack, No Leads, Body 6 x 6 mm, Pitch 0.5 mm; Supplier 1: Digi-Key; Supplier Part Number 1: MAX11359AETL+-ND; Supplier 2: Mouser; Supplier Part Number 2: 700-MAX11359AETL+; DACs/ADCs: 10-bit DAC, 16-bit ADC; Features: 2 Op Amps, Analog Switches ,Charge Pump ,RTC ,Temp. Sensor ,UPIOs ,Voltage Reference; Mounting Technology: Surface Mount; Code_JEDEC: MO-220; ComponentLink1Description: Manufacturer URL; ComponentLink1URL: http://www.maximintegrated.com/; ComponentLink2Description: Datasheet; ComponentLink2URL: http://datasheets.maximintegrated.com/en/ds/MAX11359A.pdf; ComponentLink3Description: Package Specification; ComponentLink3URL: http://pdfserv.maximintegrated.com/package_dwgs/21-0141.PDF
footprint MAXM-T4066+5_N (QFN, 40-Leads, Body 6x6mm, Pitch 0.5mm, Thermal Pad 4.1x4.1mm, IPC Medium Density)
footprint MAXM-T4066+5_L (QFN, 40-Leads, Body 6x6mm, Pitch 0.5mm, Thermal Pad 4.1x4.1mm, IPC High Density)
footprint MAXM-T4066+5_M (QFN, 40-Leads, Body 6x6mm, Pitch 0.5mm, Thermal Pad 4.1x4.1mm, IPC Low Density)
pins: 1 CLK (out) "Clock Output. Default is 2.457MHz output clock for uC.", 2 UPIO2 (io) "User-Programmable Input/Output 2. See the UPIO2_CTRL Register section for functionality.", 3 UPIO3 (io) "User-Programmable Input/Output 3. See the UPIO3_CTRL Register section for functionality.", 4 UPIO4 (io) "User-Programmable Input/Output 4. See the UPIO4_CTRL Register section for functionality.", 5 DOUT (hiz) "Serial-Data Output. Data is clocked out on SCLK’s falling edge. High impedance when C\S\ is high. When UPIO/SPI passthrough mode is enabled, DOUT mirrors the state of UPIO1.", 6 SCLK (in) "Serial-Clock Input. Clocks data in and out of the serial interface.", 7 DIN (in) "Serial-Data Input. Data is clocked in on SCLK’s rising edge.", 8 ~{CS} (in) "Active-Low Chip-Select Input. Data is not clocked into DIN unless C\S\ is low. When C\S\ is high, DOUT is high impedance. High impedance when C\S\ is high. When UPIO/SPI passthrough mode is enabled, DOUT mirrors the state of (See Datasheet)", 9 INT (out) "Programmable Active-High/Low Interrupt Output. ADC, UPIO wake-up, alarm, and voltage-monitor events.", 10 CLK32K (io) "32kHz Clock Input/Output. Outputs 32kHz clock for uC. Can be programmed as an input by enabling the IO32E bit to accept an external 32kHz input clock. The RTC, PWM, and watchdog timer always use the internal 32kHz clock (See Datasheet)", 11 ~{RESET} (oc) "Active-Low Open-Drain R\e\s\e\t\ Output. Remains low while DVDD is below the 1.8V voltage threshold, and stays low for a timeout period (tDSLP) after DVDD rises above the 1.8V threshold. R\E\S\E\T\ also pulses low when the (See Datasheet)", 12 32KOUT "32kHz Crystal Output. Connect external 32kHz watch crystal between 32KIN and 32KOUT.", 13 32KIN "32kHz Crystal Input. Connect external 32kHz watch crystal between 32KIN and 32KOUT or drive with CMOS level as shown in Figure 25.", 14 SNO1 (in) "Analog Switch 1 Normally Open Terminal. Analog input to mux.", 15 SCM1 (in) "Analog Switch 1 Common Terminal. Analog input to mux.", 16 SNC1 (in) "Analog Switch 1 Normally Closed Terminal. Analog input to mux (open on POR).", 17 SNO2 (in) "Analog Switch 2 Normally Open Terminal. Analog input to mux.", 18 SCM2 (in) "Analog Switch 2 Common Terminal. Analog input to mux (open on POR).", 19 SNC2 (in) "Analog Switch 2 Normally Closed Terminal. Analog input to mux.", 20 OUT1 (hiz) "Amplifier 1 Output. Analog input to mux.", 21 IN1- (in) "Amplifier 1 Inverting Input. Analog input to mux.", 22 IN1+ (in) "Amplifier 1 Noninverting Input", 23 SWA (in) "DACA SPST Shunt Switch Input. Connects to OUTA through a SPST switch.", 24 FBA (in) "DACA Force-Sense Feedback Input. Analog input to mux.", 25 OUTA (hiz) "DACA Force-Sense Output. Analog input to mux.", 26 AGND (power) "Analog Ground", 27 AVDD (power) "Analog Supply Voltage. Also ADC reference voltage during AVDD measurement. Bypass to AGND with 10uF and 0.1uF capacitors in parallel as close to the pin as possible.", 28 IN2+ (in) "Amplifier 2 Noninverting Input", 29 IN2- (in) "Amplifier 2 Inverting Input. Analog input to mux.", 30 OUT2 (hiz) "Amplifier 2 Output. Analog input to mux.", 31 AIN2 (in) "Analog Input 2. Analog input to mux. Inputs have internal programmable current source for external temperature measurement.", 32 AIN1 (in) "Analog Input 1. Analog input to mux. Inputs have internal programmable current source for external temperature measurement.", 33 REF (io) "Reference Input/Output. Output of the reference buffer amplifier or external reference input. Disabled at power-up to allow external reference. Reference voltage for ADC and DAC.", 34 REG (power) "Linear Voltage-Regulator Output. Charge-pump-doubler input voltage. Bypass REG with a 10uF capacitor to DGND for charge-pump regulation.", 35 CF- "Charge-Pump Flying Capacitor Terminal. Connect an external 10uF (typ) capacitor between CF+ and CF- .", 36 CF+ "Charge-Pump Flying Capacitor Terminal. Connect an external 10uF (typ) capacitor between CF+ and CF- .", 37 CPOUT (power) "Charge-Pump Output. Connect an external 10uF (typ) reservoir capacitor between CPOUT and DGND . There is a low threshold diode between DVDD and CPOUT. When the charge pump is disabled , CPOUT is pulled up within 300mV (typ) (See Datasheet)", 38 DVDD (power) "Digital Supply Voltage. Bypass to DGND with 10uF and 0.1uF capacitors in parallel as close to the pin as possible.", 39 DGND (power) "Digital Ground. Also ground for cascaded linear voltage regulator and charge-pump doubler.", 40 UPIO1 (io) "User-Programmable Input/Output 1. See the UPIO1_CTRL Register for functionality.", 41 EP (power) "Exposed  Pad . Leave unconnected  or  connect to AGND ."